# Altium footprint library Gelnar.PcbLib: 295 footprints (part 13 of 19)
Each footprint in its own frame and in the unit in brackets; x right, y up, seen from the top. Pads: shape width x height; smd on the part's side, far side on the other; paste and mask are expansions set on the pad; w line width, h text height; cw(c..) or ccw(c..) is an arc to the next point about the centre after c.
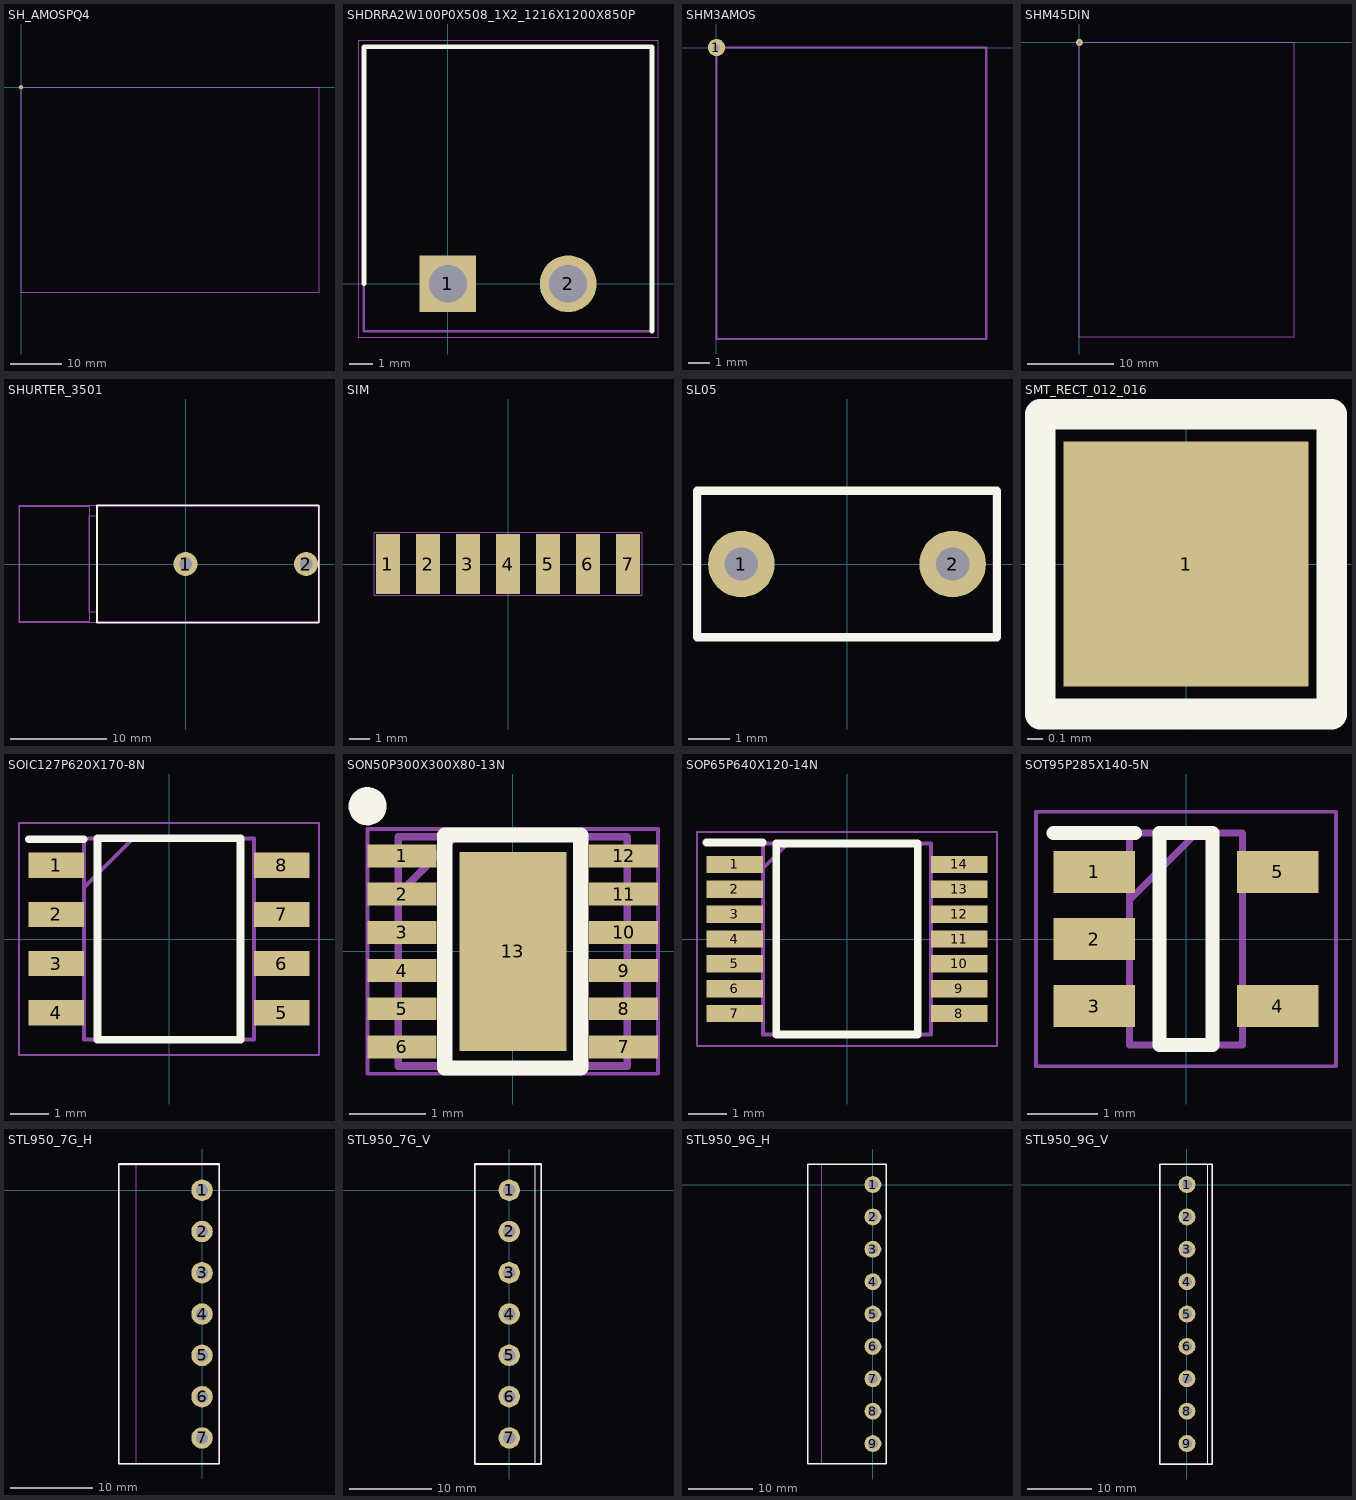
[diagram p12: the footprints below, top view; thin cyan lines are the x and y axes]

## SH_AMOSPQ4 [mm]
pads (1):
  round 0.8 hole 0.3: 1(0,0)
Top Solder:
  lines w1: 0,-37 0,-40 3,-40 ; 0,-3 0,0 3,0 ; 55,0.05 58,0.05 58,-2.95 ; 55.05,-40.05 58.05,-40.05 58.05,-37.05
Mechanical 15:
  lines w0.1: 0,-40 58,-40 ; 0,-40 0,0 ; 0,-40 58,-40 ; 0,-40 0,0 ; 0,0 58,0 ; 0,0 58,0 ; 58,-40 58,0 ; 58,-40 58,0
Multi-Layer:
  text "Value" at 0.67,-2.584 h0.75

## SHDRRA2W100P0X508_1X2_1216X1200X850P [mm]
pads (2):
  rect 2.4x2.4 / inner round 2.4 / far side rect 2.4x2.4 hole 1.6: 1(0,0)
  round 2.4 hole 1.6: 2(5.08,0)
Top Overlay:
  lines w0.2: -3.54,0 -3.54,10 8.62,10 8.62,-2
Mechanical 15:
  lines w0.1: -3.54,-2 -3.54,10 8.62,10 8.62,-2 -3.54,-2
Mechanical 20:
  lines w0.05: -3.79,-2.25 8.87,-2.25 8.87,10.25 -3.79,10.25 -3.79,-2.25

## SHM3AMOS [mm]
pads (1):
  round 0.8 hole 0.3: 1(0,0)
Top Solder:
  lines w1: 0,-11.5 0,-13.5 2,-13.5 ; 0,-2 0,0 2,0 ; 10.5,-13.5 12.5,-13.5 12.5,-11.5 ; 10.5,0 12.5,0 12.5,-2
Mechanical 15:
  lines w0.1: 0,-13.5 12.5,-13.5 ; 0,-13.5 0,0 ; 0,-13.5 12.5,-13.5 ; 0,-13.5 0,0 ; 0,0 12.5,0 ; 0,0 12.5,0 ; 12.5,-13.5 12.5,0 ; 12.5,-13.5 12.5,0
Multi-Layer:
  text "Value" at 0.67,-2.584 h0.75

## SHM45DIN [mm]
pads (1):
  round 0.8 hole 0.3: 1(0,0)
Top Solder:
  lines w1: -0.2,-32.2 -0.2,-34.2 2,-34.2 ; -0.2,-2.2 -0.2,0.2 2.032,0.2 ; 23,-34.2 25,-34.2 25,-32.2 ; 23,0.2 25,0.2 25,-2
Mechanical 15:
  lines w0.1: 0,-34 24.75,-34 ; 0,-34 0,0 ; 0,-34 24.75,-34 ; 0,-34 0,0 ; 0,0 24.75,0 ; 0,0 24.75,0 ; 24.75,-34 24.75,0 ; 24.75,-34 24.75,0
Multi-Layer:
  text "Value" at 0.67,-2.584 h0.75

## SHURTER_3501 [mm]
height 11
pads (2):
  round 2.5 hole 1.3 mask+0.05: 1(0,0) 2(12.5,0)
Top Overlay:
  lines w0.2: -9.2,-6.096 13.82,-6.096 13.82,6.096 -9.2,6.096 -9.2,-6.096
Mechanical 15:
  lines w0.01: -17.2,-6 -10,-6 -10,6 -17.2,6 -17.2,-6 ; -10,-5 -9.2,-5 -9.2,5 -10,5 -10,-5 ; -9.2,-6 13.8,-6 13.8,6 -9.2,6 -9.2,-6
Mechanical 20:
  lines w0.01: -17.272,-6.096 13.843,-6.096 13.843,6.096 -17.272,6.096 -17.272,-6.096

## SIM [mm]
pads (7):
  rect 1.2x3 smd mask+0.05: 1(-6,0) 2(-4,0) 3(-2,0) 4(0,0) 5(2,0) 6(4,0) 7(6,0)
Mechanical 15:
  lines w0.01: -6.7,-1.6 6.7,-1.6 6.7,1.6 -6.7,1.6 -6.7,-1.6
Multi-Layer:
  text "Value" at -1.238,-0.254 h0.6

## SL05 [mm]
pads (2):
  round 1.6 hole 0.8 mask+0.05: 1(-2.54,0) 2(2.54,0)
Top Overlay:
  lines w0.2: -3.604,-1.76 3.604,-1.76 3.604,1.76 -3.604,1.76 -3.604,-1.76
Mechanical 15:
  lines w0.1: -3.541,-1.706 3.541,-1.706 3.541,1.706 -3.541,1.706 -3.541,-1.706
Mechanical 20:
  lines w0.1: -3.604,-1.76 3.604,-1.76 3.604,1.76 -3.604,1.76 -3.604,-1.76

## SMT_RECT_012_016 [mm]
pads (1):
  rrect0% 1.6x1.6 smd mask+0.05: 1(0,0)
Top Overlay:
  lines w0.2: -0.953,-0.98 0.953,-0.98 0.953,0.98 -0.953,0.98 -0.953,-0.98
Mechanical 15:
  lines w0.1: -0.953,-0.953 0.953,-0.953 0.953,0.953 -0.953,0.953 -0.953,-0.953

## SOIC127P620X170-8N [mm]
pads (8):
  rect 1.425x0.65 smd: 1(-2.912,1.905) 2(-2.912,0.635) 3(-2.912,-0.635) 4(-2.912,-1.905) 5(2.912,-1.905) 6(2.912,-0.635) 7(2.912,0.635) 8(2.912,1.905)
Top Overlay:
  lines w0.2: -3.625,2.58 -2.2,2.58 ; -1.85,-2.6 1.85,-2.6 1.85,2.6 -1.85,2.6 -1.85,-2.6
Mechanical 15:
  lines w0.1: -2.2,1.33 -0.93,2.6 ; -2.2,-2.6 2.2,-2.6 2.2,2.6 -2.2,2.6 -2.2,-2.6
Mechanical 20:
  lines w0.05: -3.875,-3 3.875,-3 3.875,3 -3.875,3 -3.875,-3

## SON50P300X300X80-13N [mm]
pads (13):
  rect 0.9x0.3 smd mask+0.05: 1(-1.45,1.25) 2(-1.45,0.75) 3(-1.45,0.25) 4(-1.45,-0.25) 5(-1.45,-0.75) 6(-1.45,-1.25) 7(1.45,-1.25) 8(1.45,-0.75) 9(1.45,-0.25) 10(1.45,0.25) 11(1.45,0.75) 12(1.45,1.25)
  rect 1.4x2.6 smd mask+0.05: 13(0,0)
Top Overlay:
  circle w0.25: c-1.9,1.9 r0.125
  lines w0.2: -0.889,-1.524 0.889,-1.524 0.889,1.524 -0.889,1.524 -0.889,-1.524
Mechanical 15:
  lines w0.1: -1.5,0.75 -0.75,1.5 ; -1.5,-1.5 1.5,-1.5 1.5,1.5 -1.5,1.5 -1.5,-1.5
Mechanical 20:
  lines w0.05: -1.9,-1.6 1.9,-1.6 1.9,1.6 -1.9,1.6 -1.9,-1.6

## SOP65P640X120-14N [mm]
pads (14):
  rect 1.475x0.45 smd: 1(-2.938,1.95) 2(-2.938,1.3) 3(-2.938,0.65) 4(-2.938,0) 5(-2.938,-0.65) 6(-2.938,-1.3) 7(-2.938,-1.95) 8(2.938,-1.95) 9(2.938,-1.3) 10(2.938,-0.65) 11(2.938,0) 12(2.938,0.65) 13(2.938,1.3) 14(2.938,1.95)
Top Overlay:
  lines w0.2: -3.675,2.525 -2.2,2.525 ; -1.85,-2.5 1.85,-2.5 1.85,2.5 -1.85,2.5 -1.85,-2.5
Mechanical 15:
  lines w0.1: -2.2,1.85 -1.55,2.5 ; -2.2,-2.5 2.2,-2.5 2.2,2.5 -2.2,2.5 -2.2,-2.5
Mechanical 20:
  lines w0.05: -3.925,-2.8 3.925,-2.8 3.925,2.8 -3.925,2.8 -3.925,-2.8

## SOT95P285X140-5N [mm]
pads (5):
  rect 1.15x0.6 smd: 1(-1.3,0.95) 2(-1.3,0) 3(-1.3,-0.95) 4(1.3,-0.95) 5(1.3,0.95)
Top Overlay:
  lines w0.2: -1.875,1.5 -0.725,1.5 ; -0.375,-1.5 0.375,-1.5 0.375,1.5 -0.375,1.5 -0.375,-1.5
Mechanical 15:
  lines w0.1: -0.8,0.55 0.15,1.5 ; -0.8,-1.5 0.8,-1.5 0.8,1.5 -0.8,1.5 -0.8,-1.5
Mechanical 20:
  lines w0.05: -2.125,-1.8 2.125,-1.8 2.125,1.8 -2.125,1.8 -2.125,-1.8

## STL950_7G_H [mm]
pads (7):
  round 2.6 hole 1.5 mask+0.05: 1(0,0) 2(0,-5) 3(0,-10) 4(0,-15) 5(0,-20) 6(0,-25) 7(0,-30)
Top Overlay:
  lines w0.2: -10.096,-33.115 2.095,-33.115 2.095,3.175 -10.096,3.175 -10.096,-33.115
Mechanical 15:
  circle w0.1: c0,0 r0.75
  circle w0.1: c0,-15.24 r0.75
  lines w0.1: -8.001,-33.115 -8.001,3.111 ; -10.033,-33.152 2.032,-33.152 2.032,3.111 -10.033,3.111 -10.033,-33.152
Mechanical 16:
  circle w0.1: c0,0 r0.75
  circle w0.1: c0,-15.24 r0.75
Multi-Layer:
  text "Value" at -6.252,-6.33 h0.75
Mechanical 19:
  lines w0.1: 0,-0.635 0,0 0.635,0
Mechanical 20:
  lines w0.1: -10.096,-33.115 2.095,-33.115 2.095,3.175 -10.096,3.175 -10.096,-33.115

## STL950_7G_V [mm]
pads (7):
  round 2.6 hole 1.5 mask+0.05: 1(0,0) 2(0,-5) 3(0,-10) 4(0,-15) 5(0,-20) 6(0,-25) 7(0,-30)
Top Overlay:
  lines w0.1: 3.1,-33.1 3.1,3.1
  lines w0.2: -4.196,-33.16 3.895,-33.16 3.895,3.175 -4.196,3.175 -4.196,-33.16
Mechanical 15:
  lines w0.1: -4.101,-33.155 -4.101,3.111 ; -4.133,-33.155 3.832,-33.155 3.832,3.111 -4.133,3.111 -4.133,-33.155
Multi-Layer:
  text "Value" at -6.252,-6.33 h0.75
Mechanical 19:
  lines w0.1: 0,-0.635 0,0 0.635,0
Mechanical 20:
  lines w0.1: -4.196,-33.15 3.895,-33.15 3.895,3.175 -4.196,3.175 -4.196,-33.15

## STL950_9G_H [mm]
pads (9):
  round 2.6 hole 1.5 mask+0.05: 1(0,0) 2(0,-5) 3(0,-10) 4(0,-15) 5(0,-20) 6(0,-25) 7(0,-30) 8(0,-35) 9(0,-40)
Top Overlay:
  lines w0.2: -10.096,-43.115 2.095,-43.115 2.095,3.175 -10.096,3.175 -10.096,-43.115
Mechanical 15:
  circle w0.1: c0,0 r0.75
  circle w0.1: c0,-15.24 r0.75
  lines w0.1: -8.001,-43.115 -8.001,3.111 ; -10.033,-43.152 2.032,-43.152 2.032,3.111 -10.033,3.111 -10.033,-43.152
Mechanical 16:
  circle w0.1: c0,0 r0.75
  circle w0.1: c0,-15.24 r0.75
Multi-Layer:
  text "Value" at -6.252,-6.33 h0.75
Mechanical 19:
  lines w0.1: 0,-0.635 0,0 0.635,0
Mechanical 20:
  lines w0.1: -10.096,-43.115 2.095,-43.115 2.095,3.175 -10.096,3.175 -10.096,-43.115

## STL950_9G_V [mm]
pads (9):
  round 2.6 hole 1.5 mask+0.05: 1(0,0) 2(0,-5) 3(0,-10) 4(0,-15) 5(0,-20) 6(0,-25) 7(0,-30) 8(0,-35) 9(0,-40)
Top Overlay:
  lines w0.1: 3.1,-43.1 3.1,3.1
  lines w0.2: -4.196,-43.16 3.895,-43.16 3.895,3.175 -4.196,3.175 -4.196,-43.16
Mechanical 15:
  lines w0.1: -4.101,-33.155 -4.101,3.111 ; -4.133,-43.155 3.832,-43.155 3.832,3.111 -4.133,3.111 -4.133,-43.155
Multi-Layer:
  text "Value" at -6.252,-6.33 h0.75
Mechanical 19:
  lines w0.1: 0,-0.635 0,0 0.635,0
Mechanical 20:
  lines w0.1: -4.196,-43.15 3.895,-43.15 3.895,3.175 -4.196,3.175 -4.196,-43.15